# Altium footprint library VLMS1500-GS08.PcbLib: 1 footprints
Each footprint in its own frame and in the unit in brackets; x right, y up, seen from the top. Pads: shape width x height; smd on the part's side, far side on the other; paste and mask are expansions set on the pad; w line width, h text height; cw(c..) or ccw(c..) is an arc to the next point about the centre after c.
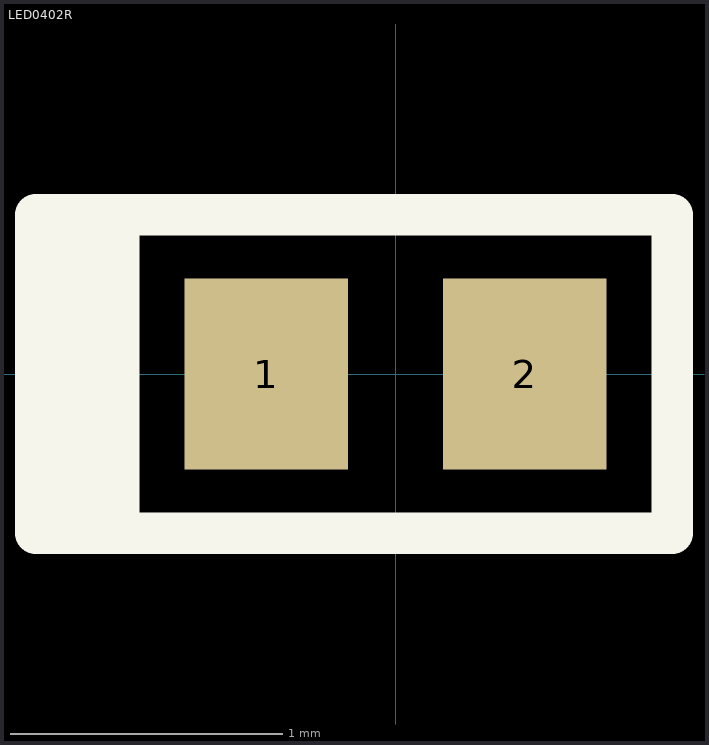
[diagram p0: the footprint, top view; thin cyan lines are the x and y axes]

## LED0402R [mm]
pads (2):
  rect 0.6x0.7 smd: 1(-0.475,0) 2(0.475,0)
Top Overlay:
  rectangle: -1.27,-0.584 -0.94,0.526
  lines w0.152: -1.321,-0.584 -1.321,0.584 1.016,0.584 1.016,-0.584 -1.321,-0.584
3D body "VLMS1500-GS08.STEP": height 0.2, standoff 0, extent -0.5,-0.3 0.5,0.3